# Altium schematic symbol library WE-RJ45 LAN.SchLib: 103 symbols (part 2 of 2)
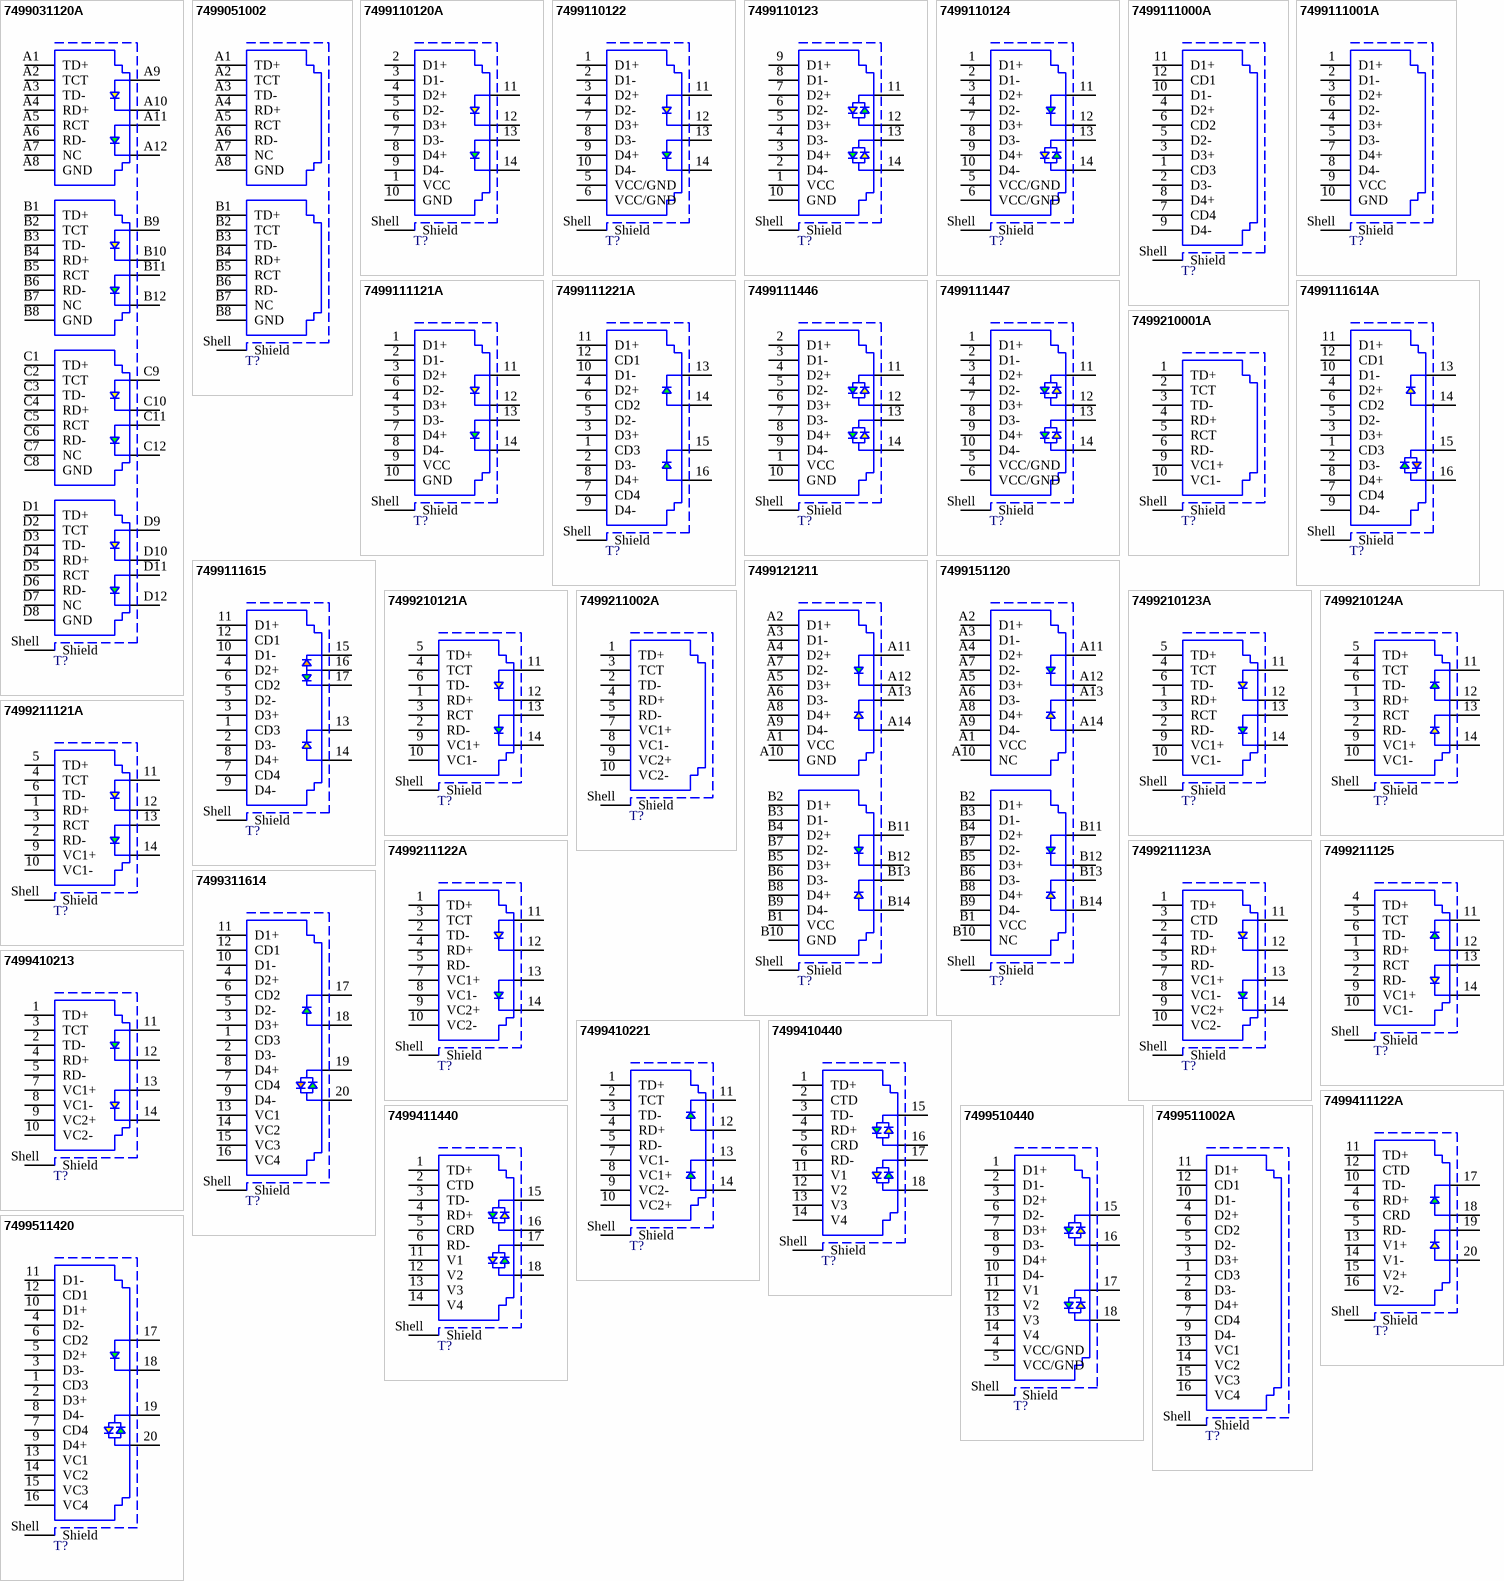
[diagram p4: symbols 7499031120A to 7499511420]

## 7499410221
designator T?  (value not drawn)
WE-RJ45 LAN Transformer, 1 Port, 10/100 Base-T, Tab Vertical; Manufacturer: Wurth Elektronik; LED: green-green; Number of Ports: 1; PoE: PoE+ (up to 600 mA); Shield Tabs: No; USB: No USB; Manufacturer Part Number: 7499410221; Category: Filtered Connectors; Match Code: WE-RJ45 LAN; ComponentLink1Description: Website Link; ComponentLink1URL: https://www.we-online.com/redexpert/article/7499410221?ad; ComponentLink2Description: Datasheet Link; ComponentLink2URL: https://www.we-online.com/redexpert/spec/7499410221?ad; Mount: Through Hole; Operating Temperature Max: 85°C; Operating Temperature Min: -40°C; Packaging: Tube; Length: 23.6mm; Width: 16.6mm; Height: 17.1mm; Data Rate: 10/100 Base-T; Tab: Vertical
footprint 7499410221
pins: 1 TD+, 2 TCT, 3 TD-, 4 RD+, 5 RD-, 7 VC1-, 8 VC1+, 9 VC2-, 10 VC2+, 11, 12, 13, 14, Shell Shield

## 7499410440
designator T?  (value not drawn)
WE-RJ45 LAN Transformer, 1 Port, 10/100 Base-T, Tab Down; Manufacturer: Wurth Elektronik; LED: yellow-green; Number of Ports: 1; PoE: PoE+ (up to 720 mA); Shield Tabs: No; USB: No USB; Manufacturer Part Number: 7499410440; Category: Filtered Connectors; Match Code: WE-RJ45 LAN; ComponentLink1Description: Website Link; ComponentLink1URL: https://www.we-online.com/redexpert/article/7499410440?ad; ComponentLink2Description: Datasheet Link; ComponentLink2URL: https://www.we-online.com/redexpert/spec/7499410440?ad; Mount: Through Hole; Operating Temperature Max: 85°C; Operating Temperature Min: -40°C; Packaging: Tray; Length: 21.35mm; Width: 15.9mm; Height: 13.65mm; Data Rate: 10/100 Base-T; Tab: Down
footprint 7499410440
pins: 1 TD+, 2 CTD, 3 TD-, 4 RD+, 5 CRD, 6 RD-, 11 V1, 12 V2, 13 V3, 14 V4, 15, 16, 17, 18, Shell Shield

## 7499411122A
designator T?  (value not drawn)
WE-RJ45 LAN Transformer, 1 Port, 100 Base-TX, Tab Up; Manufacturer: Wurth Elektronik; LED: yellow-green; Number of Ports: 1; PoE: PoE+ (up to 600 mA); Shield Tabs: Yes; USB: No USB; Manufacturer Part Number: 7499411122A; Category: Filtered Connectors; Match Code: WE-RJ45 LAN; ComponentLink1Description: Website Link; ComponentLink1URL: https://www.we-online.com/redexpert/article/7499411122A?ad; ComponentLink2Description: Datasheet Link; ComponentLink2URL: https://www.we-online.com/redexpert/spec/7499411122A?ad; Mount: Through Hole; Operating Temperature Max: 70°C; Operating Temperature Min: 0°C; Packaging: Tray; Length: 33.02mm; Width: 17mm; Height: 13.87mm; Data Rate: 100 Base-TX; Tab: Up
footprint 7499411122A
pins: 4 RD+, 5 RD-, 6 CRD, 10 TD-, 11 TD+, 12 CTD, 13 V1+, 14 V1-, 15 V2+, 16 V2-, 17, 18, 19, 20, Shell Shield

## 7499411440
designator T?  (value not drawn)
WE-RJ45 LAN Transformer, 1 Port, 10/100 Base-T, Tab Down; Manufacturer: Wurth Elektronik; LED: yellow-green; Number of Ports: 1; PoE: PoE+ (up to 720 mA); Shield Tabs: Yes; USB: No USB; Manufacturer Part Number: 7499411440; Category: Filtered Connectors; Match Code: WE-RJ45 LAN; ComponentLink1Description: Website Link; ComponentLink1URL: https://www.we-online.com/redexpert/article/7499411440?ad; ComponentLink2Description: Datasheet Link; ComponentLink2URL: https://www.we-online.com/redexpert/spec/7499411440?ad; Mount: Through Hole; Operating Temperature Max: 85°C; Operating Temperature Min: -40°C; Packaging: Tray; Length: 21.35mm; Width: 15.9mm; Height: 13.65mm; Data Rate: 10/100 Base-T; Tab: Down
footprint 7499411440
pins: 1 TD+, 2 CTD, 3 TD-, 4 RD+, 5 CRD, 6 RD-, 11 V1, 12 V2, 13 V3, 14 V4, 15, 16, 17, 18, Shell Shield

## 7499510440
designator T?  (value not drawn)
WE-RJ45 LAN Transformer, 1 Port, 1000 Base-T, Tab Down; Manufacturer: Wurth Elektronik; LED: yellow/green-yellow/green; Number of Ports: 1; PoE: PoE (up to 600 mA); Shield Tabs: No; USB: No USB; Manufacturer Part Number: 7499510440; Category: Filtered Connectors; Match Code: WE-RJ45 LAN; ComponentLink1Description: Website Link; ComponentLink1URL: https://www.we-online.com/redexpert/article/7499510440?ad; ComponentLink2Description: Datasheet Link; ComponentLink2URL: https://www.we-online.com/redexpert/spec/7499510440?ad; Mount: Through Hole; Operating Temperature Max: 85°C; Operating Temperature Min: -40°C; Packaging: Tray; Length: 21.35mm; Width: 15.9mm; Height: 13.65mm; Data Rate: 1000 Base-T; Tab: Down
footprint 7499510440
pins: 1 D1+, 2 D1-, 3 D2+, 4 VCC/GND, 5 VCC/GND, 6 D2-, 7 D3+, 8 D3-, 9 D4+, 10 D4-, 11 V1, 12 V2, 13 V3, 14 V4, 15, 16, 17, 18, Shell Shield

## 7499511002A
designator T?  (value not drawn)
WE-RJ45 LAN Transformer, 1 Port, 1000 Base-T, Tab Up; Manufacturer: Wurth Elektronik; LED: No LED; Number of Ports: 1; PoE: PoE+ (up to 600 mA); Shield Tabs: Yes; USB: No USB; Manufacturer Part Number: 7499511002A; Category: Filtered Connectors; Match Code: WE-RJ45 LAN; ComponentLink1Description: Website Link; ComponentLink1URL: https://www.we-online.com/redexpert/article/7499511002A?ad; ComponentLink2Description: Datasheet Link; ComponentLink2URL: https://www.we-online.com/redexpert/spec/7499511002A?ad; Mount: Through Hole; Operating Temperature Max: 85°C; Operating Temperature Min: -40°C; Packaging: Tray; Length: 33.02mm; Width: 17.02mm; Height: 13.87mm; Data Rate: 1000 Base-T; Tab: Up
footprint 7499511002A
pins: 1 CD3, 2 D3-, 3 D3+, 4 D2+, 5 D2-, 6 CD2, 7 CD4, 8 D4+, 9 D4-, 10 D1-, 11 D1+, 12 CD1, 13 VC1, 14 VC2, 15 VC3, 16 VC4, Shell Shield

## 7499511420
designator T?  (value not drawn)
WE-RJ45 LAN Transformer, 1 Port, 1000 Base-T, Tab Up; Manufacturer: Wurth Elektronik; LED: green/yellow-green; Number of Ports: 1; PoE: PoE+ (up to 1000 mA per center Tap); Shield Tabs: Yes; USB: No USB; Manufacturer Part Number: 7499511420; Category: Filtered Connectors; Match Code: WE-RJ45 LAN; ComponentLink1Description: Website Link; ComponentLink1URL: https://www.we-online.com/redexpert/article/7499511420?ad; ComponentLink2Description: Datasheet Link; ComponentLink2URL: https://www.we-online.com/redexpert/spec/7499511420?ad; Mount: Through Hole; Operating Temperature Max: 85°C; Operating Temperature Min: -40°C; Packaging: Tray; Length: 33.02mm; Width: 17mm; Height: 13.87mm; Data Rate: 1000 Base-T; Tab: Up
footprint 7499511420
pins: 1 CD3, 2 D3+, 3 D3-, 4 D2-, 5 D2+, 6 CD2, 7 CD4, 8 D4-, 9 D4+, 10 D1+, 11 D1-, 12 CD1, 13 VC1, 14 VC2, 15 VC3, 16 VC4, 17, 18, 19, 20, Shell Shield

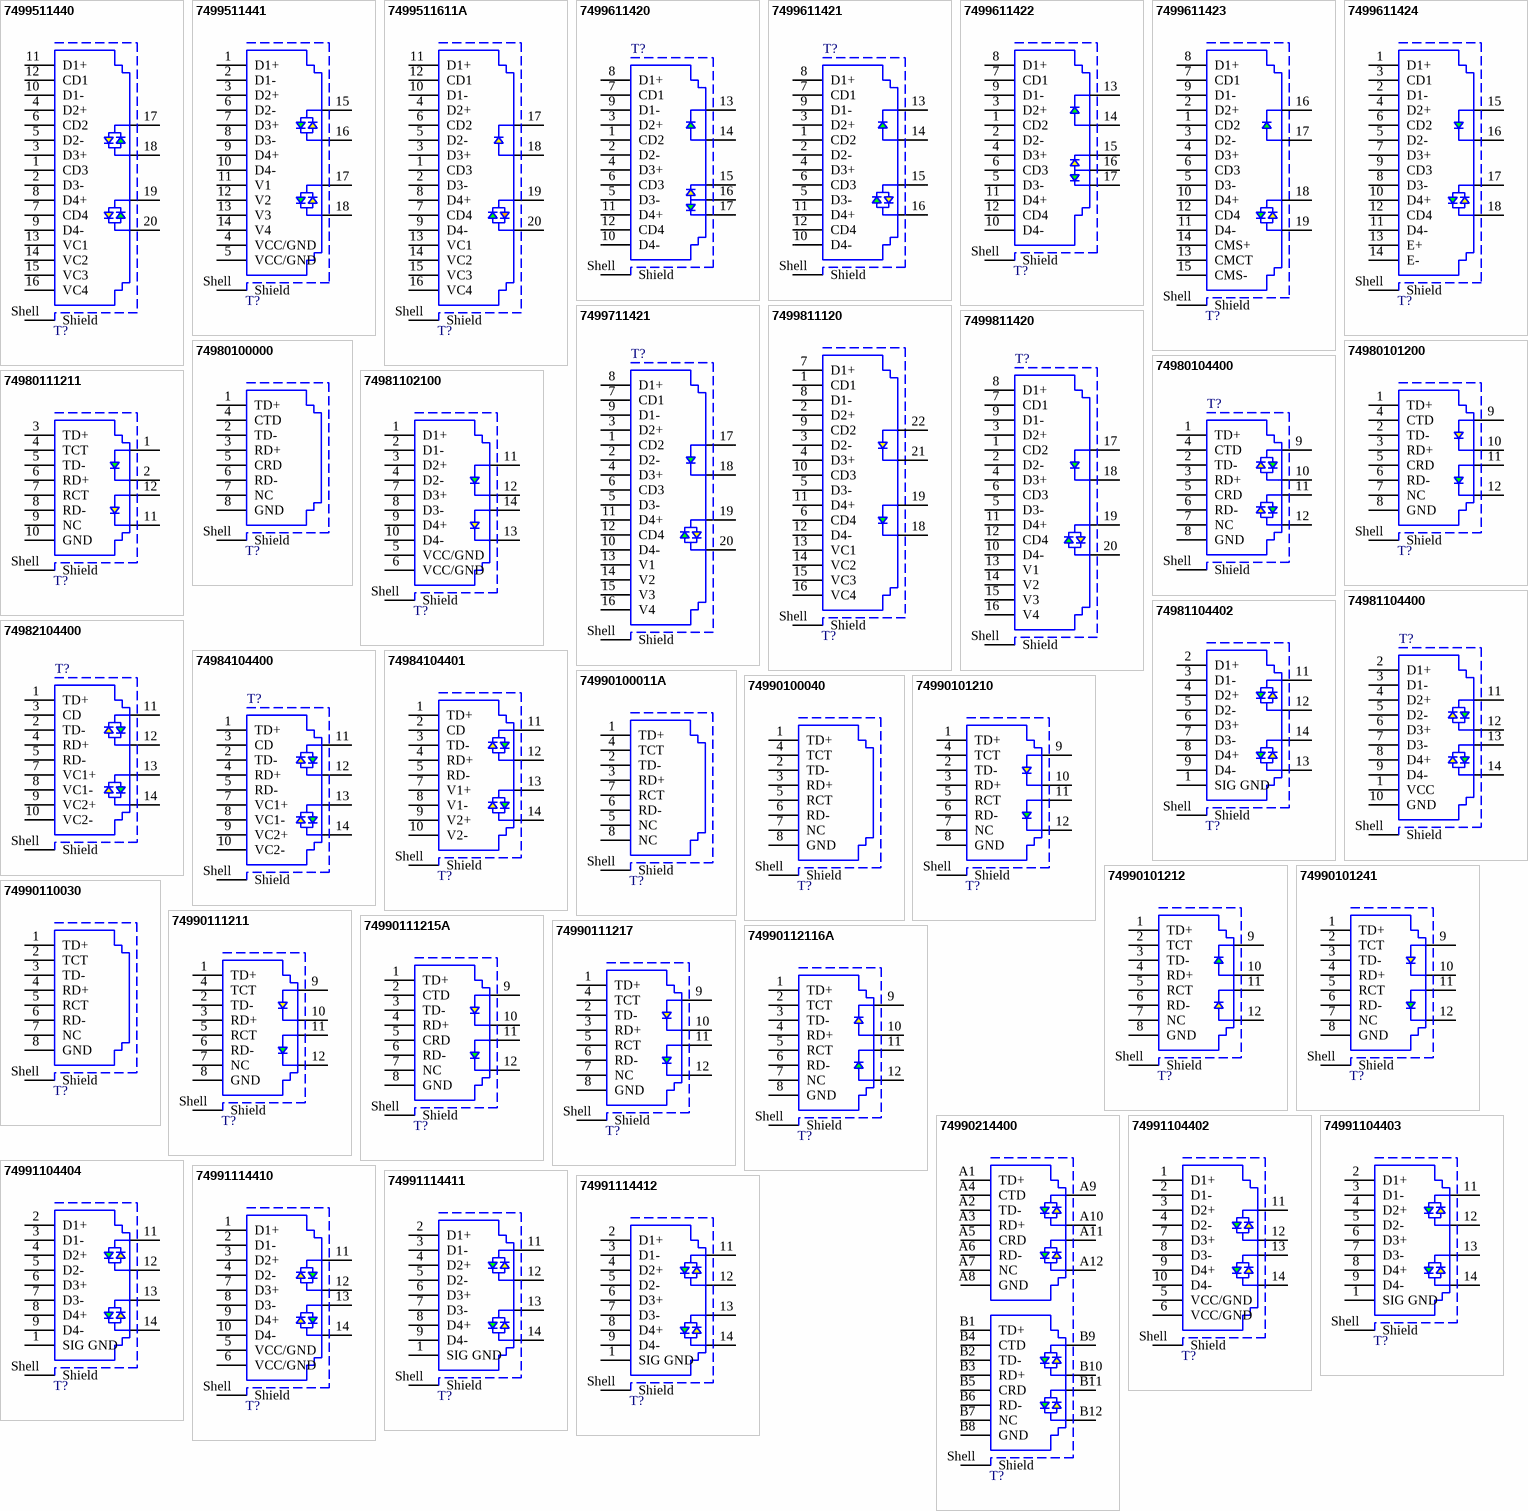
[diagram p2: symbols 7499511440 to 74991114412]

## 7499511440
designator T?  (value not drawn)
WE-RJ45 LAN Transformer, 1 Port, 1000 Base-T, Tab Up; Manufacturer: Wurth Elektronik; LED: green/yellow-green/yellow; Number of Ports: 1; PoE: PoE+ (up to 600 mA); Shield Tabs: Yes; USB: No USB; Manufacturer Part Number: 7499511440; Category: Filtered Connectors; Match Code: WE-RJ45 LAN; ComponentLink1Description: Website Link; ComponentLink1URL: https://www.we-online.com/redexpert/article/7499511440?ad; ComponentLink2Description: Datasheet Link; ComponentLink2URL: https://www.we-online.com/redexpert/spec/7499511440?ad; Mount: Through Hole; Operating Temperature Max: 85°C; Operating Temperature Min: -40°C; Packaging: Tray; Length: 33.02mm; Width: 17mm; Height: 13.87mm; Data Rate: 1000 Base-T; Tab: Up
footprint 7499511440
pins: 1 CD3, 2 D3-, 3 D3+, 4 D2+, 5 D2-, 6 CD2, 7 CD4, 8 D4+, 9 D4-, 10 D1-, 11 D1+, 12 CD1, 13 VC1, 14 VC2, 15 VC3, 16 VC4, 17, 18, 19, 20, Shell Shield

## 7499511441
designator T?  (value not drawn)
WE-RJ45 LAN Transformer, 1 Port, 1000 Base-T, Tab Down; Manufacturer: Wurth Elektronik; LED: yellow/green-yellow/green; Number of Ports: 1; PoE: PoE (up to 600 mA); Shield Tabs: Yes; USB: No USB; Manufacturer Part Number: 7499511441; Category: Filtered Connectors; Match Code: WE-RJ45 LAN; ComponentLink1Description: Website Link; ComponentLink1URL: https://www.we-online.com/redexpert/article/7499511441?ad; ComponentLink2Description: Datasheet Link; ComponentLink2URL: https://www.we-online.com/redexpert/spec/7499511441?ad; Mount: Through Hole; Operating Temperature Max: 85°C; Operating Temperature Min: -40°C; Packaging: Tray; Length: 21.35mm; Width: 15.9mm; Height: 13.65mm; Data Rate: 1000 Base-T; Tab: Down
footprint 7499511441
pins: 1 D1+, 2 D1-, 3 D2+, 4 VCC/GND, 5 VCC/GND, 6 D2-, 7 D3+, 8 D3-, 9 D4+, 10 D4-, 11 V1, 12 V2, 13 V3, 14 V4, 15, 16, 17, 18, Shell Shield

## 7499511611A
designator T?  (value not drawn)
WE-RJ45 LAN Transformer, 1 Port, 1000 Base-T, Tab Up; Manufacturer: Wurth Elektronik; LED: green/orange-yellow; Number of Ports: 1; PoE: PoE+ (up to 600 mA); Shield Tabs: Yes; USB: No USB; Manufacturer Part Number: 7499511611A; Category: Filtered Connectors; Match Code: WE-RJ45 LAN; ComponentLink1Description: Website Link; ComponentLink1URL: https://www.we-online.com/redexpert/article/7499511611A?ad; ComponentLink2Description: Datasheet Link; ComponentLink2URL: https://www.we-online.com/redexpert/spec/7499511611A?ad; Mount: Through Hole; Operating Temperature Max: 70°C; Operating Temperature Min: 0°C; Packaging: Tray; Length: 24.6mm; Width: 17.78mm; Height: 11.3mm; Data Rate: 1000 Base-T; Tab: Up
footprint 7499511611A
pins: 1 CD3, 2 D3-, 3 D3+, 4 D2+, 5 D2-, 6 CD2, 7 CD4, 8 D4+, 9 D4-, 10 D1-, 11 D1+, 12 CD1, 13 VC1, 14 VC2, 15 VC3, 16 VC4, 17, 18, 19, 20, Shell Shield

## 7499611420
designator T?  (value not drawn)
WE-RJ45 10G Transformer, 1 Port, 10G Base-T, Tab Up; Manufacturer: Wurth Elektronik; Match Code: WE-RJ45 LAN; LED: yellow/green-green; Number of Ports: 1; PoE: non-PoE; Shield Tabs: Yes; USB: No USB; Manufacturer Part Number: 7499611420; Category: Filtered Connectors; ComponentLink1Description: Website Link; ComponentLink1URL: https://www.we-online.com/redexpert/article/7499611420?ad; ComponentLink2Description: Datasheet Link; ComponentLink2URL: https://www.we-online.com/redexpert/spec/7499611420?ad; Mount: Through Hole; Operating Temperature Max: 85°C; Operating Temperature Min: -40°C; Packaging: Tube; Length: 24.6mm; Width: 17.78mm; Height: 11.3mm; Data Rate: 10G Base-T; Tab: Up
footprint 7499611420
pins: 1 CD2, 2 D2-, 3 D2+, 4 D3+, 5 D3-, 6 CD3, 7 CD1, 8 D1+, 9 D1-, 10 D4-, 11 D4+, 12 CD4, 13, 14, 15, 16, 17, Shell Shield

## 7499611421
designator T?  (value not drawn)
WE-RJ45 10G Transformer, 1 Port, 10G Base-T, Tab Up; Manufacturer: Wurth Elektronik; Match Code: WE-RJ45 LAN; LED: yellow/green-green; Number of Ports: 1; PoE: non-PoE; Shield Tabs: Yes; USB: No USB; Manufacturer Part Number: 7499611421; Category: Filtered Connectors; ComponentLink1Description: Website Link; ComponentLink1URL: https://www.we-online.com/redexpert/article/7499611421?ad; ComponentLink2Description: Datasheet Link; ComponentLink2URL: https://www.we-online.com/redexpert/spec/7499611421?ad; Mount: Through Hole; Operating Temperature Max: 70°C; Operating Temperature Min: 0°C; Packaging: Tube; Length: 33.02mm; Width: 16.87mm; Height: 13.87mm; Data Rate: 10G Base-T; Tab: Up
footprint 7499611421
pins: 1 CD2, 2 D2-, 3 D2+, 4 D3+, 5 D3-, 6 CD3, 7 CD1, 8 D1+, 9 D1-, 10 D4-, 11 D4+, 12 CD4, 13, 14, 15, 16, Shell Shield

## 7499611422
designator T?  (value not drawn)
WE-RJ45 10G Transformer, 1 Port, 10G Base-T, Tab Down; Manufacturer: Wurth Elektronik; Match Code: WE-RJ45 LAN; LED: yellow/green-green; Number of Ports: 1; PoE: non-PoE; Shield Tabs: Yes; USB: No USB; Manufacturer Part Number: 7499611422; Category: Filtered Connectors; ComponentLink1Description: Website Link; ComponentLink1URL: https://www.we-online.com/redexpert/article/7499611422?ad; ComponentLink2Description: Datasheet Link; ComponentLink2URL: https://www.we-online.com/redexpert/spec/7499611422?ad; Mount: Through Hole; Operating Temperature Max: 85°C; Operating Temperature Min: -40°C; Packaging: Tray; Length: 23.88mm; Width: 17.53mm; Height: 11.3mm; Data Rate: 10G Base-T; Tab: Down
footprint 7499611422
pins: 1 CD2, 2 D2-, 3 D2+, 4 D3+, 5 D3-, 6 CD3, 7 CD1, 8 D1+, 9 D1-, 10 D4-, 11 D4+, 12 CD4, 13, 14, 15, 16, 17, Shell Shield

## 7499611423
designator T?  (value not drawn)
WE-RJ45 10G Transformer, 1 Port, 10G Base-T, Tab Down; Manufacturer: Wurth Elektronik; Match Code: WE-RJ45 LAN; LED: yellow/green-green; Number of Ports: 1; PoE: non-PoE; Shield Tabs: Yes; USB: No USB; Manufacturer Part Number: 7499611423; Category: Filtered Connectors; ComponentLink1Description: Website Link; ComponentLink1URL: https://www.we-online.com/redexpert/article/7499611423?ad; ComponentLink2Description: Datasheet Link; ComponentLink2URL: https://www.we-online.com/redexpert/spec/7499611423?ad; Mount: Through Hole; Operating Temperature Max: 85°C; Operating Temperature Min: -40°C; Packaging: Tray; Length: 28.57mm; Width: 17.53mm; Height: 11.92mm; Data Rate: 10G Base-T; Tab: Down
footprint 7499611423
pins: 1 CD2, 2 D2+, 3 D2-, 4 D3+, 5 D3-, 6 CD3, 7 CD1, 8 D1+, 9 D1-, 10 D4+, 11 D4-, 12 CD4, 13 CMCT, 14 CMS+, 15 CMS-, 16, 17, 18, 19, Shell Shield

## 7499611424
designator T?  (value not drawn)
WE-RJ45 10G Transformer, 1 Port, 10G Base-T, Tab Up; Manufacturer: Wurth Elektronik; Match Code: WE-RJ45 LAN; LED: yellow/green-green; Number of Ports: 1; PoE: non-PoE; Shield Tabs: Yes; USB: No USB; Manufacturer Part Number: 7499611424; Category: Filtered Connectors; ComponentLink1Description: Website Link; ComponentLink1URL: https://www.we-online.com/redexpert/article/7499611424?ad; ComponentLink2Description: Datasheet Link; ComponentLink2URL: https://www.we-online.com/redexpert/spec/7499611424?ad; Mount: Through Hole; Operating Temperature Max: 85°C; Operating Temperature Min: -40°C; Packaging: Tray; Length: 26.06mm; Width: 17.58mm; Height: 11.3mm; Data Rate: 10G Base-T; Tab: Up
footprint 7499611424
pins: 1 D1+, 2 D1-, 3 CD1, 4 D2+, 5 D2-, 6 CD2, 7 D3+, 8 D3-, 9 CD3, 10 D4+, 11 D4-, 12 CD4, 13 E+, 14 E-, 15, 16, 17, 18, Shell Shield

## 7499711421
designator T?  (value not drawn)
WE-RJ45 10G Transformer, 1 Port, 10G Base-T, Tab Up; Manufacturer: Wurth Elektronik; Match Code: WE-RJ45 LAN; LED: yellow/green-green; Number of Ports: 1; PoE: PoE (up to 350 mA); Shield Tabs: Yes; USB: No USB; Manufacturer Part Number: 7499711421; Category: Filtered Connectors; ComponentLink1Description: Website Link; ComponentLink1URL: https://www.we-online.com/redexpert/article/7499711421?ad; ComponentLink2Description: Datasheet Link; ComponentLink2URL: https://www.we-online.com/redexpert/spec/7499711421?ad; Mount: Through Hole; Operating Temperature Max: 85°C; Operating Temperature Min: -40°C; Packaging: Tube; Length: 33.02mm; Width: 17mm; Height: 13.87mm; Data Rate: 10G Base-T; Tab: Up
footprint 7499711421
pins: 1 CD2, 2 D2-, 3 D2+, 4 D3+, 5 D3-, 6 CD3, 7 CD1, 8 D1+, 9 D1-, 10 D4-, 11 D4+, 12 CD4, 13 V1, 14 V2, 15 V3, 16 V4, 17, 18, 19, 20, Shell Shield

## 7499811120
designator T?  (value not drawn)
WE-RJ45 10G Transformer, 1 Port, 10G Base-T, Tab Down; Manufacturer: Wurth Elektronik; Match Code: WE-RJ45 LAN; LED: yellow-green; Number of Ports: 1; PoE: PoE+ (up to 1000 mA); Shield Tabs: Yes; USB: No USB; Manufacturer Part Number: 7499811120; Category: Filtered Connectors; ComponentLink1Description: Website Link; ComponentLink1URL: https://www.we-online.com/redexpert/article/7499811120?ad; ComponentLink2Description: Datasheet Link; ComponentLink2URL: https://www.we-online.com/redexpert/spec/7499811120?ad; Mount: Through Hole; Operating Temperature Max: 85°C; Operating Temperature Min: -40°C; Packaging: Tray; Length: 28.57mm; Width: 17.53mm; Height: 11.92mm; Data Rate: 10G Base-T; Tab: Down
footprint 7499811120
pins: 1 CD1, 2 D2+, 3 D2-, 4 D3+, 5 D3-, 6 CD4, 7 D1+, 8 D1-, 9 CD2, 10 CD3, 11 D4+, 12 D4-, 13 VC1, 14 VC2, 15 VC3, 16 VC4, 18, 19, 21, 22, Shell Shield

## 7499811420
designator T?  (value not drawn)
WE-RJ45 10G Transformer, 1 Port, 10G Base-T, Tab Up; Manufacturer: Wurth Elektronik; Match Code: WE-RJ45 LAN; LED: yellow/green-green; Number of Ports: 1; PoE: PoE+ (up to 600 mA); Shield Tabs: Yes; USB: No USB; Manufacturer Part Number: 7499811420; Category: Filtered Connectors; ComponentLink1Description: Website Link; ComponentLink1URL: https://www.we-online.com/redexpert/article/7499811420?ad; ComponentLink2Description: Datasheet Link; ComponentLink2URL: https://www.we-online.com/redexpert/spec/7499811420?ad; Mount: Through Hole; Operating Temperature Max: 85°C; Operating Temperature Min: -40°C; Packaging: Tube; Length: 33.02mm; Width: 17mm; Height: 13.87mm; Data Rate: 10G Base-T; Tab: Up
footprint 7499811420
pins: 1 CD2, 2 D2-, 3 D2+, 4 D3+, 5 D3-, 6 CD3, 7 CD1, 8 D1+, 9 D1-, 10 D4-, 11 D4+, 12 CD4, 13 V1, 14 V2, 15 V3, 16 V4, 17, 18, 19, 20, Shell Shield

## 74980100000
designator T?  (value not drawn)
WE-RJ45 LAN Through Hole Reflow, 1 Port, 10/100 Base-T, Tab Vertical; Manufacturer: Wurth Elektronik; LED: No LED; Number of Ports: 1; PoE: non-PoE; Shield Tabs: No; USB: No USB; Manufacturer Part Number: 74980100000; Category: Filtered Connectors; Match Code: WE-RJ45 LAN; ComponentLink1Description: Website Link; ComponentLink1URL: https://www.we-online.com/redexpert/article/74980100000?ad; ComponentLink2Description: Datasheet Link; ComponentLink2URL: https://www.we-online.com/redexpert/spec/74980100000?ad; Mount: Through Hole Reflow; Operating Temperature Max: 85°C; Operating Temperature Min: -40°C; Packaging: Tape and Reel; Length: 16.7mm; Width: 16.05mm; Height: 16.9mm; Data Rate: 10/100 Base-T; Tab: Vertical
footprint 74980100000
pins: 1 TD+, 2 TD-, 3 RD+, 4 CTD, 5 CRD, 6 RD-, 7 NC, 8 GND, Shell Shield

## 74980101200
designator T?  (value not drawn)
WE-RJ45 LAN Through Hole Reflow, 1 Port, 10/100 Base-T, Tab Vertical; Manufacturer: Wurth Elektronik; LED: yellow-green; Number of Ports: 1; PoE: non-PoE; Shield Tabs: No; USB: No USB; Manufacturer Part Number: 74980101200; Category: Filtered Connectors; Match Code: WE-RJ45 LAN; ComponentLink1Description: Website Link; ComponentLink1URL: https://www.we-online.com/redexpert/article/74980101200?ad; ComponentLink2Description: Datasheet Link; ComponentLink2URL: https://www.we-online.com/redexpert/spec/74980101200?ad; Mount: Through Hole Reflow; Operating Temperature Max: 85°C; Operating Temperature Min: -40°C; Packaging: Tape and Reel; Length: 16.7mm; Width: 16.05mm; Height: 16.9mm; Data Rate: 10/100 Base-T; Tab: Vertical
footprint 74980101200
pins: 1 TD+, 2 TD-, 3 RD+, 4 CTD, 5 CRD, 6 RD-, 7 NC, 8 GND, 9, 10, 11, 12, Shell Shield

## 74980104400
designator T?  (value not drawn)
WE-RJ45 LAN Through Hole Reflow, 1 Port, 10/100 Base-T, Tab Up; Manufacturer: Wurth Elektronik; LED: green/yellow-green/yellow; Number of Ports: 1; PoE: non-PoE; Shield Tabs: No; USB: No USB; Manufacturer Part Number: 74980104400; Category: Filtered Connectors; Match Code: WE-RJ45 LAN; ComponentLink1Description: Website Link; ComponentLink1URL: https://www.we-online.com/redexpert/article/74980104400?ad; ComponentLink2Description: Datasheet Link; ComponentLink2URL: https://www.we-online.com/redexpert/spec/74980104400?ad; Mount: Through Hole Reflow; Operating Temperature Max: 85°C; Operating Temperature Min: -40°C; Packaging: Tape and Reel; Length: 21.5mm; Width: 16mm; Height: 13.6mm; Data Rate: 10/100 Base-T; Tab: Up
footprint 74980104400
pins: 1 TD+, 2 TD-, 3 RD+, 4 CTD, 5 CRD, 6 RD-, 7 NC, 8 GND, 9, 10, 11, 12, Shell Shield

## 74980111211
designator T?  (value not drawn)
WE-RJ45 LAN Transformer, 1 Port, 10/100 Base-T, Tab Up; Manufacturer: Wurth Elektronik; LED: yellow-green; Number of Ports: 1; PoE: non-PoE; Shield Tabs: Yes; USB: No USB; Manufacturer Part Number: 74980111211; Category: Filtered Connectors; Match Code: WE-RJ45 LAN; ComponentLink1Description: Website Link; ComponentLink1URL: https://www.we-online.com/redexpert/article/74980111211?ad; ComponentLink2Description: Datasheet Link; ComponentLink2URL: https://www.we-online.com/redexpert/spec/74980111211?ad; Mount: Surface Mount; Operating Temperature Max: 85°C; Operating Temperature Min: -40°C; Packaging: Tape and Reel; Length: 25.4mm; Width: 16.1mm; Height: 13.61mm; Data Rate: 10/100 Base-T; Tab: Up
footprint 74980111211
pins: 1, 2, 3 TD+, 4 TCT, 5 TD-, 6 RD+, 7 RCT, 8 RD-, 9 NC, 10 GND, 11, 12, Shell Shield

## 74981102100
designator T?  (value not drawn)
WE-RJ45 LAN Through Hole Reflow, 1 Port, 10/100/1000 Base-T, Tab Vertical; Manufacturer: Wurth Elektronik; LED: green-yellow; Number of Ports: 1; PoE: non-PoE; Shield Tabs: No; USB: No USB; Manufacturer Part Number: 74981102100; Category: Filtered Connectors; Match Code: WE-RJ45 LAN; ComponentLink1Description: Website Link; ComponentLink1URL: https://www.we-online.com/redexpert/article/74981102100?ad; ComponentLink2Description: Datasheet Link; ComponentLink2URL: https://www.we-online.com/redexpert/spec/74981102100?ad; Mount: Through Hole Reflow; Operating Temperature Max: 85°C; Operating Temperature Min: -40°C; Packaging: Tape and Reel; Length: 16.7mm; Width: 16.05mm; Height: 16.9mm; Data Rate: 10/100/1000 Base-T; Tab: Vertical
footprint 74981102100
pins: 1 D1+, 2 D1-, 3 D2+, 4 D2-, 5 VCC/GND, 6 VCC/GND, 7 D3+, 8 D3-, 9 D4+, 10 D4-, 11, 12, 13, 14, Shell Shield

## 74981104400
designator T?  (value not drawn)
WE-RJ45 LAN Through Hole Reflow, 1 Port, 10/100/1000 Base-T, Tab Up; Manufacturer: Wurth Elektronik; LED: green/yellow-green/yellow; Number of Ports: 1; PoE: non-PoE; Shield Tabs: No; USB: No USB; Manufacturer Part Number: 74981104400; Category: Filtered Connectors; Match Code: WE-RJ45 LAN; ComponentLink1Description: Website Link; ComponentLink1URL: https://www.we-online.com/redexpert/article/74981104400?ad; ComponentLink2Description: Datasheet Link; ComponentLink2URL: https://www.we-online.com/redexpert/spec/74981104400?ad; Mount: Through Hole Reflow; Operating Temperature Max: 85°C; Operating Temperature Min: -40°C; Packaging: Tape and Reel; Length: 21.5mm; Width: 16mm; Height: 13.6mm; Data Rate: 10/100/1000 Base-T; Tab: Up
footprint 74981104400
pins: 1 VCC, 2 D1+, 3 D1-, 4 D2+, 5 D2-, 6 D3+, 7 D3-, 8 D4+, 9 D4-, 10 GND, 11, 12, 13, 14, Shell Shield

## 74981104402
designator T?  (value not drawn)
WE-RJ45 LAN Transformer, 1 Port, 1000 Base-T, Tab Vertical; Manufacturer: Wurth Elektronik; LED: yellow/green-yellow/green; Number of Ports: 1; PoE: non-PoE; Shield Tabs: No; USB: No USB; Manufacturer Part Number: 74981104402; Category: Filtered Connectors; Match Code: WE-RJ45 LAN; ComponentLink1Description: Website Link; ComponentLink1URL: https://www.we-online.com/redexpert/article/74981104402?ad; ComponentLink2Description: Datasheet Link; ComponentLink2URL: https://www.we-online.com/redexpert/spec/74981104402?ad; Mount: Through Hole; Operating Temperature Max: 85°C; Operating Temperature Min: -40°C; Packaging: Tape and Reel; Length: 16.7mm; Width: 16.05mm; Height: 16.9mm; Data Rate: 1000 Base-T; Tab: Vertical
footprint 74981104402
pins: 1 SIG GND, 2 D1+, 3 D1-, 4 D2+, 5 D2-, 6 D3+, 7 D3-, 8 D4+, 9 D4-, 11, 12, 13, 14, Shell Shield

## 74982104400
designator T?  (value not drawn)
WE-RJ45 LAN Through Hole Reflow, 1 Port, 10/100 Base-T, Tab Up; Manufacturer: Wurth Elektronik; LED: green/yellow-green/yellow; Number of Ports: 1; PoE: PoE (up to 350 mA); Shield Tabs: No; USB: No USB; Manufacturer Part Number: 74982104400; Category: Filtered Connectors; Match Code: WE-RJ45 LAN; ComponentLink1Description: Website Link; ComponentLink1URL: https://www.we-online.com/redexpert/article/74982104400?ad; ComponentLink2Description: Datasheet Link; ComponentLink2URL: https://www.we-online.com/redexpert/spec/74982104400?ad; Mount: Through Hole Reflow; Operating Temperature Max: 85°C; Operating Temperature Min: -40°C; Packaging: Tape and Reel; Length: 21.5mm; Width: 16mm; Height: 13.6mm; Data Rate: 10/100 Base-T; Tab: Up
footprint 74982104400
pins: 1 TD+, 2 TD-, 3 CD, 4 RD+, 5 RD-, 7 VC1+, 8 VC1-, 9 VC2+, 10 VC2-, 11, 12, 13, 14, Shell Shield

## 74984104400
designator T?  (value not drawn)
WE-RJ45 LAN Through Hole Reflow, 1 Port, 10/100 Base-T, Tab Up; Manufacturer: Wurth Elektronik; LED: green/yellow-green/yellow; Number of Ports: 1; PoE: PoE+ (up to 600 mA); Shield Tabs: No; USB: No USB; Manufacturer Part Number: 74984104400; Category: Filtered Connectors; Match Code: WE-RJ45 LAN; ComponentLink1Description: Website Link; ComponentLink1URL: https://www.we-online.com/redexpert/article/74984104400?ad; ComponentLink2Description: Datasheet Link; ComponentLink2URL: https://www.we-online.com/redexpert/spec/74984104400?ad; Mount: Through Hole Reflow; Operating Temperature Max: 85°C; Operating Temperature Min: -40°C; Packaging: Tape and Reel; Length: 21.5mm; Width: 16mm; Height: 13.6mm; Data Rate: 10/100 Base-T; Tab: Up
footprint 74984104400
pins: 1 TD+, 2 TD-, 3 CD, 4 RD+, 5 RD-, 7 VC1+, 8 VC1-, 9 VC2+, 10 VC2-, 11, 12, 13, 14, Shell Shield

## 74984104401
designator T?  (value not drawn)
WE-RJ45 LAN Through Hole Reflow, 1 Port, 10/100 Base-T, Tab Vertical; Manufacturer: Wurth Elektronik; LED: yellow/green-yellow/green; Number of Ports: 1; PoE: PoE+ (up to 600 mA); Shield Tabs: No; USB: No USB; Manufacturer Part Number: 74984104401; Category: Filtered Connectors; Match Code: WE-RJ45 LAN; ComponentLink1Description: Website Link; ComponentLink1URL: https://www.we-online.com/redexpert/article/74984104401?ad; ComponentLink2Description: Datasheet Link; ComponentLink2URL: https://www.we-online.com/redexpert/spec/74984104401?ad; Mount: Through Hole Reflow; Operating Temperature Max: 85°C; Operating Temperature Min: -40°C; Packaging: Tape and Reel; Length: 16.7mm; Width: 16.05mm; Height: 16.9mm; Data Rate: 10/100 Base-T; Tab: Vertical
footprint 74984104401
pins: 1 TD+, 2 CD, 3 TD-, 4 RD+, 5 RD-, 7 V1+, 8 V1-, 9 V2+ (power), 10 V2- (power), 11, 12, 13, 14, Shell Shield

## 74990100011A
designator T?  (value not drawn)
WE-RJ45 LAN Transformer, 1 Port, 10/100 Base-T, Tab Up; Manufacturer: Wurth Elektronik; LED: No LED; Number of Ports: 1; PoE: non-PoE; Shield Tabs: No; USB: No USB; Manufacturer Part Number: 74990100011A; Category: Filtered Connectors; Match Code: WE-RJ45 LAN; ComponentLink1Description: Website Link; ComponentLink1URL: https://www.we-online.com/redexpert/article/74990100011A?ad; ComponentLink2Description: Datasheet Link; ComponentLink2URL: https://www.we-online.com/redexpert/spec/74990100011A?ad; Mount: Through Hole; Operating Temperature Max: 85°C; Operating Temperature Min: -40°C; Packaging: Tube; Length: 21.84mm; Width: 16.13mm; Height: 13.74mm; Data Rate: 10/100 Base-T; Tab: Up
footprint 74990100011A
pins: 1 TD+, 2 TD-, 3 RD+, 4 TCT, 5 NC, 6 RD-, 7 RCT, 8 NC, Shell Shield

## 74990100040
designator T?  (value not drawn)
WE-RJ45 LAN Transformer, 1 Port, 10/100 Base-T, Tab Down; Manufacturer: Wurth Elektronik; LED: No LED; Number of Ports: 1; PoE: non-PoE; Shield Tabs: No; USB: No USB; Manufacturer Part Number: 74990100040; Category: Filtered Connectors; Match Code: WE-RJ45 LAN; ComponentLink1Description: Website Link; ComponentLink1URL: https://www.we-online.com/redexpert/article/74990100040?ad; ComponentLink2Description: Datasheet Link; ComponentLink2URL: https://www.we-online.com/redexpert/spec/74990100040?ad; Mount: Through Hole; Operating Temperature Max: 85°C; Operating Temperature Min: -40°C; Packaging: Tube; Length: 21.59mm; Width: 16.04mm; Height: 13.74mm; Data Rate: 10/100 Base-T; Tab: Down
footprint 74990100040
pins: 1 TD+, 2 TD-, 3 RD+, 4 TCT, 5 RCT, 6 RD-, 7 NC, 8 GND, Shell Shield

## 74990101210
designator T?  (value not drawn)
WE-RJ45 LAN Transformer, 1 Port, 10/100 Base-T, Tab Vertical; Manufacturer: Wurth Elektronik; LED: green-yellow; Number of Ports: 1; PoE: non-PoE; Shield Tabs: No; USB: No USB; Manufacturer Part Number: 74990101210; Category: Filtered Connectors; Match Code: WE-RJ45 LAN; ComponentLink1Description: Website Link; ComponentLink1URL: https://www.we-online.com/redexpert/article/74990101210?ad; ComponentLink2Description: Datasheet Link; ComponentLink2URL: https://www.we-online.com/redexpert/spec/74990101210?ad; Mount: Through Hole; Operating Temperature Max: 85°C; Operating Temperature Min: -40°C; Packaging: Tube; Length: 17.1mm; Width: 16.6mm; Height: 17.5mm; Data Rate: 10/100 Base-T; Tab: Vertical
footprint 74990101210
pins: 1 TD+, 2 TD-, 3 RD+, 4 TCT, 5 RCT, 6 RD-, 7 NC, 8 GND, 9, 10, 11, 12, Shell Shield

## 74990101212
designator T?  (value not drawn)
WE-RJ45 LAN Transformer, 1 Port, 10/100 Base-T, Tab Up; Manufacturer: Wurth Elektronik; LED: yellow-green; Number of Ports: 1; PoE: non-PoE; Shield Tabs: No; USB: No USB; Manufacturer Part Number: 74990101212; Category: Filtered Connectors; Match Code: WE-RJ45 LAN; ComponentLink1Description: Website Link; ComponentLink1URL: https://www.we-online.com/redexpert/article/74990101212?ad; ComponentLink2Description: Datasheet Link; ComponentLink2URL: https://www.we-online.com/redexpert/spec/74990101212?ad; Mount: Through Hole; Operating Temperature Max: 85°C; Operating Temperature Min: -40°C; Packaging: Tube; Length: 25.3mm; Width: 16.2mm; Height: 13.5mm; Data Rate: 10/100 Base-T; Tab: Up
footprint 74990101212
pins: 1 TD+, 2 TCT, 3 TD-, 4 RD+, 5 RCT, 6 RD-, 7 NC, 8 GND, 9, 10, 11, 12, Shell Shield

## 74990101241
designator T?  (value not drawn)
WE-RJ45 LAN Transformer, 1 Port, 10/100 Base-T, Tab Vertical; Manufacturer: Wurth Elektronik; LED: green-yellow; Number of Ports: 1; PoE: non-PoE; Shield Tabs: No; USB: No USB; Manufacturer Part Number: 74990101241; Category: Filtered Connectors; Match Code: WE-RJ45 LAN; ComponentLink1Description: Website Link; ComponentLink1URL: https://www.we-online.com/redexpert/article/74990101241?ad; ComponentLink2Description: Datasheet Link; ComponentLink2URL: https://www.we-online.com/redexpert/spec/74990101241?ad; Mount: Through Hole; Operating Temperature Max: 85°C; Operating Temperature Min: -40°C; Packaging: Tube; Length: 17.5mm; Width: 16.8mm; Height: 17.5mm; Data Rate: 10/100 Base-T; Tab: Vertical
footprint 74990101241
pins: 1 TD+, 2 TCT, 3 TD-, 4 RD+, 5 RCT, 6 RD-, 7 NC, 8 GND, 9, 10, 11, 12, Shell Shield

## 74990110030
designator T?  (value not drawn)
WE-RJ45 LAN Transformer, 1 Port, 10/100 Base-T, Tab Up; Manufacturer: Wurth Elektronik; LED: No LED; Number of Ports: 1; PoE: non-PoE; Shield Tabs: Yes; USB: No USB; Manufacturer Part Number: 74990110030; Category: Filtered Connectors; Match Code: WE-RJ45 LAN; ComponentLink1Description: Website Link; ComponentLink1URL: https://www.we-online.com/redexpert/article/74990110030?ad; ComponentLink2Description: Datasheet Link; ComponentLink2URL: https://www.we-online.com/redexpert/spec/74990110030?ad; Mount: Through Hole; Operating Temperature Max: 70°C; Operating Temperature Min: 0°C; Packaging: Tube; Length: 25.35mm; Width: 16.25mm; Height: 13.5mm; Data Rate: 10/100 Base-T; Tab: Up
footprint 74990110030
pins: 1 TD+, 2 TCT, 3 TD-, 4 RD+, 5 RCT, 6 RD-, 7 NC, 8 GND, Shell Shield

## 74990111211
designator T?  (value not drawn)
WE-RJ45 LAN Transformer, 1 Port, 10/100 Base-T, Tab Down; Manufacturer: Wurth Elektronik; LED: yellow-green; Number of Ports: 1; PoE: non-PoE; Shield Tabs: Yes; USB: No USB; Manufacturer Part Number: 74990111211; Category: Filtered Connectors; Match Code: WE-RJ45 LAN; ComponentLink1Description: Website Link; ComponentLink1URL: https://www.we-online.com/redexpert/article/74990111211?ad; ComponentLink2Description: Datasheet Link; ComponentLink2URL: https://www.we-online.com/redexpert/spec/74990111211?ad; Mount: Through Hole; Operating Temperature Max: 85°C; Operating Temperature Min: -40°C; Packaging: Tube; Length: 21.84mm; Width: 15.88mm; Height: 13.95mm; Data Rate: 10/100 Base-T; Tab: Down
footprint 74990111211
pins: 1 TD+, 2 TD-, 3 RD+, 4 TCT, 5 RCT, 6 RD-, 7 NC, 8 GND, 9, 10, 11, 12, Shell Shield

## 74990111215A
designator T?  (value not drawn)
WE-RJ45 LAN Transformer, 1 Port, 10/100 Base-T, Tab Down; Manufacturer: Wurth Elektronik; LED: yellow-green; Number of Ports: 1; PoE: non-PoE; Shield Tabs: Yes; USB: No USB; Manufacturer Part Number: 74990111215A; Category: Filtered Connectors; Match Code: WE-RJ45 LAN; ComponentLink1Description: Website Link; ComponentLink1URL: https://www.we-online.com/redexpert/article/74990111215A?ad; ComponentLink2Description: Datasheet Link; ComponentLink2URL: https://www.we-online.com/redexpert/spec/74990111215A?ad; Mount: Through Hole; Operating Temperature Max: 70°C; Operating Temperature Min: 0°C; Packaging: Tube; Length: 21.84mm; Width: 15.88mm; Height: 13.74mm; Data Rate: 10/100 Base-T; Tab: Down
footprint 74990111215A
pins: 1 TD+, 2 CTD, 3 TD-, 4 RD+, 5 CRD, 6 RD-, 7 NC, 8 GND, 9, 10, 11, 12, Shell Shield

## 74990111217
designator T?  (value not drawn)
WE-RJ45 LAN Transformer, 1 Port, 10/100 Base-T, Tab Up; Manufacturer: Wurth Elektronik; LED: yellow-green; Number of Ports: 1; PoE: non-PoE; Shield Tabs: Yes; USB: No USB; Manufacturer Part Number: 74990111217; Category: Filtered Connectors; Match Code: WE-RJ45 LAN; ComponentLink1Description: Website Link; ComponentLink1URL: https://www.we-online.com/redexpert/article/74990111217?ad; ComponentLink2Description: Datasheet Link; ComponentLink2URL: https://www.we-online.com/redexpert/spec/74990111217?ad; Mount: Through Hole; Operating Temperature Max: 85°C; Operating Temperature Min: -40°C; Packaging: Tube; Length: 21.3mm; Width: 16mm; Height: 13.55mm; Data Rate: 10/100 Base-T; Tab: Up
footprint 74990111217
pins: 1 TD+, 2 TD-, 3 RD+, 4 TCT, 5 RCT, 6 RD-, 7 NC, 8 GND, 9, 10, 11, 12, Shell Shield

## 74990112116A
designator T?  (value not drawn)
WE-RJ45 LAN Transformer, 1 Port, 10/100 Base-T, Tab Up; Manufacturer: Wurth Elektronik; LED: green-yellow; Number of Ports: 1; PoE: non-PoE; Shield Tabs: Yes; USB: No USB; Manufacturer Part Number: 74990112116A; Category: Filtered Connectors; Match Code: WE-RJ45 LAN; ComponentLink1Description: Website Link; ComponentLink1URL: https://www.we-online.com/redexpert/article/74990112116A?ad; ComponentLink2Description: Datasheet Link; ComponentLink2URL: https://www.we-online.com/redexpert/spec/74990112116A?ad; Mount: Through Hole; Operating Temperature Max: 85°C; Operating Temperature Min: -40°C; Packaging: Tube; Length: 25.3mm; Width: 16.2mm; Height: 13.5mm; Data Rate: 10/100 Base-T; Tab: Up
footprint 74990112116A
pins: 1 TD+, 2 TCT, 3 TD-, 4 RD+, 5 RCT, 6 RD-, 7 NC, 8 GND, 9, 10, 11, 12, Shell Shield

## 74990214400
designator T?  (value not drawn)
WE-RJ45 LAN Transformer, 1x2 Port, 10/100 Base-T, Tab Up; Manufacturer: Wurth Elektronik; LED: yellow-green; PoE: non-PoE; Shield Tabs: Yes; USB: No USB; Manufacturer Part Number: 74990214400; Category: Filtered Connectors; Match Code: WE-RJ45 LAN; ComponentLink1Description: Website Link; ComponentLink1URL: https://www.we-online.com/redexpert/article/74990214400?ad; ComponentLink2Description: Datasheet Link; ComponentLink2URL: https://www.we-online.com/redexpert/spec/74990214400?ad; Mount: Through Hole; Operating Temperature Max: 85°C; Operating Temperature Min: -40°C; Packaging: Tray; Length: 31mm; Width: 21.5mm; Height: 13.4mm; Data Rate: 10/100 Base-T; Number of Ports: 1x2; Tab: Up
footprint 74990214400
pins: A1 TD+, A2 TD-, A3 RD+, A4 CTD, A5 CRD, A6 RD-, A7 NC, A8 GND, A9, A10, A11, A12, B1 TD+, B2 TD-, B3 RD+, B4 CTD, B5 CRD, B6 RD-, B7 NC, B8 GND, B9, B10, B11, B12, Shell Shield

## 74991104402
designator T?  (value not drawn)
WE-RJ45 LAN Transformer, 1 Port, 1000 Base-T, Tab Vertical; Manufacturer: Wurth Elektronik; LED: yellow/green-yellow/green; Number of Ports: 1; PoE: non-PoE; Shield Tabs: No; USB: No USB; Manufacturer Part Number: 74991104402; Category: Filtered Connectors; Match Code: WE-RJ45 LAN; ComponentLink1Description: Website Link; ComponentLink1URL: https://www.we-online.com/redexpert/article/74991104402?ad; ComponentLink2Description: Datasheet Link; ComponentLink2URL: https://www.we-online.com/redexpert/spec/74991104402?ad; Mount: Through Hole; Operating Temperature Max: 85°C; Operating Temperature Min: -40°C; Packaging: Tray; Length: 16.82mm; Width: 16mm; Height: 16.9mm; Data Rate: 1000 Base-T; Tab: Vertical
footprint 74991104402
pins: 1 D1+, 2 D1-, 3 D2+, 4 D2-, 5 VCC/GND, 6 VCC/GND, 7 D3+, 8 D3-, 9 D4+, 10 D4-, 11, 12, 13, 14, Shell Shield

## 74991104403
designator T?  (value not drawn)
WE-RJ45 LAN Transformer, 1 Port, 1000 Base-T, Tab Down; Manufacturer: Wurth Elektronik; LED: yellow/green-yellow/green; Number of Ports: 1; PoE: non-PoE; Shield Tabs: No; USB: No USB; Manufacturer Part Number: 74991104403; Category: Filtered Connectors; Match Code: WE-RJ45 LAN; ComponentLink1Description: Website Link; ComponentLink1URL: https://www.we-online.com/redexpert/article/74991104403?ad; ComponentLink2Description: Datasheet Link; ComponentLink2URL: https://www.we-online.com/redexpert/spec/74991104403?ad; Mount: Through Hole; Operating Temperature Max: 85°C; Operating Temperature Min: -40°C; Packaging: Tape and Reel; Length: 21.35mm; Width: 15.9mm; Height: 13.63mm; Data Rate: 1000 Base-T; Tab: Down
footprint 74991104403
pins: 1 SIG GND, 2 D1+, 3 D1-, 4 D2+, 5 D2-, 6 D3+, 7 D3-, 8 D4+, 9 D4-, 11, 12, 13, 14, Shell Shield

## 74991104404
designator T?  (value not drawn)
WE-RJ45 LAN Transformer, 1 Port, 1000 Base-T, Tab Up; Manufacturer: Wurth Elektronik; LED: yellow/green-yellow/green; Number of Ports: 1; PoE: non-PoE; Shield Tabs: No; USB: No USB; Manufacturer Part Number: 74991104404; Category: Filtered Connectors; Match Code: WE-RJ45 LAN; ComponentLink1Description: Website Link; ComponentLink1URL: https://www.we-online.com/redexpert/article/74991104404?ad; ComponentLink2Description: Datasheet Link; ComponentLink2URL: https://www.we-online.com/redexpert/spec/74991104404?ad; Mount: Through Hole; Operating Temperature Max: 85°C; Operating Temperature Min: -40°C; Packaging: Tape and Reel; Length: 21.5mm; Width: 15.75mm; Height: 13.4mm; Data Rate: 1000 Base-T; Tab: Up
footprint 74991104404
pins: 1 SIG GND, 2 D1+, 3 D1-, 4 D2+, 5 D2-, 6 D3+, 7 D3-, 8 D4+, 9 D4-, 11, 12, 13, 14, Shell Shield

## 74991114410
designator T?  (value not drawn)
WE-RJ45 LAN Transformer, 1 Port, 1000 Base-T, Tab Vertical; Manufacturer: Wurth Elektronik; LED: yellow/green-yellow/green; Number of Ports: 1; PoE: non-PoE; Shield Tabs: Yes; USB: No USB; Manufacturer Part Number: 74991114410; Category: Filtered Connectors; Match Code: WE-RJ45 LAN; ComponentLink1Description: Website Link; ComponentLink1URL: https://www.we-online.com/redexpert/article/74991114410?ad; ComponentLink2Description: Datasheet Link; ComponentLink2URL: https://www.we-online.com/redexpert/spec/74991114410?ad; Mount: Through Hole; Operating Temperature Max: 85°C; Operating Temperature Min: -40°C; Packaging: Tray; Length: 16.8mm; Width: 16mm; Height: 16.9mm; Data Rate: 1000 Base-T; Tab: Vertical
footprint 74991114410
pins: 1 D1+, 2 D1-, 3 D2+, 4 D2-, 5 VCC/GND, 6 VCC/GND, 7 D3+, 8 D3-, 9 D4+, 10 D4-, 11, 12, 13, 14, Shell Shield

## 74991114411
designator T?  (value not drawn)
WE-RJ45 LAN Transformer, 1 Port, 1000 Base-T, Tab Down; Manufacturer: Wurth Elektronik; LED: yellow/green-yellow/green; Number of Ports: 1; PoE: non-PoE; Shield Tabs: Yes; USB: No USB; Manufacturer Part Number: 74991114411; Category: Filtered Connectors; Match Code: WE-RJ45 LAN; ComponentLink1Description: Website Link; ComponentLink1URL: https://www.we-online.com/redexpert/article/74991114411?ad; ComponentLink2Description: Datasheet Link; ComponentLink2URL: https://www.we-online.com/redexpert/spec/74991114411?ad; Mount: Through Hole; Operating Temperature Max: 85°C; Operating Temperature Min: -40°C; Packaging: Tray; Length: 21.35mm; Width: 15.9mm; Height: 13.63mm; Data Rate: 1000 Base-T; Tab: Down
footprint 74991114411
pins: 1 SIG GND, 2 D1+, 3 D1-, 4 D2+, 5 D2-, 6 D3+, 7 D3-, 8 D4+, 9 D4-, 11, 12, 13, 14, Shell Shield

## 74991114412
designator T?  (value not drawn)
WE-RJ45 LAN Transformer, 1 Port, 1000 Base-T, Tab Up; Manufacturer: Wurth Elektronik; LED: yellow/green-yellow/green; Number of Ports: 1; PoE: non-PoE; Shield Tabs: Yes; USB: No USB; Manufacturer Part Number: 74991114412; Category: Filtered Connectors; Match Code: WE-RJ45 LAN; ComponentLink1Description: Website Link; ComponentLink1URL: https://www.we-online.com/redexpert/article/74991114412?ad; ComponentLink2Description: Datasheet Link; ComponentLink2URL: https://www.we-online.com/redexpert/spec/74991114412?ad; Mount: Through Hole; Operating Temperature Max: 85°C; Operating Temperature Min: -40°C; Packaging: Tray; Length: 21.5mm; Width: 15.75mm; Height: 13.8mm; Data Rate: 1000 Base-T; Tab: Up
footprint 74991114412
pins: 1 SIG GND, 2 D1+, 3 D1-, 4 D2+, 5 D2-, 6 D3+, 7 D3-, 8 D4+, 9 D4-, 11, 12, 13, 14, Shell Shield

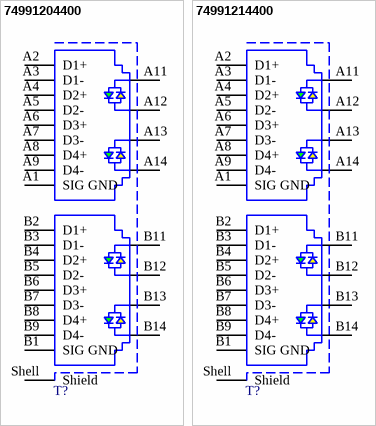
[diagram p3: symbols 74991204400 to 74991214400]

## 74991204400
designator T?  (value not drawn)
WE-RJ45 LAN Transformer, 1x2 Port, 1000 Base-T, Tab Down; Manufacturer: Wurth Elektronik; LED: yellow/green-yellow/green; PoE: non-PoE; Shield Tabs: No; USB: No USB; Manufacturer Part Number: 74991204400; Category: Filtered Connectors; Match Code: WE-RJ45 LAN; ComponentLink1Description: Website Link; ComponentLink1URL: https://www.we-online.com/redexpert/article/74991204400?ad; ComponentLink2Description: Datasheet Link; ComponentLink2URL: https://www.we-online.com/redexpert/spec/74991204400?ad; Mount: Through Hole; Operating Temperature Max: 85°C; Operating Temperature Min: -40°C; Packaging: Tray; Length: 31.24mm; Width: 21.35mm; Height: 13.63mm; Data Rate: 1000 Base-T; Number of Ports: 1x2; Tab: Down
footprint 74991204400
pins: A1 SIG GND, A2 D1+, A3 D1-, A4 D2+, A5 D2-, A6 D3+, A7 D3-, A8 D4+, A9 D4-, A11, A12, A13, A14, B1 SIG GND, B2 D1+, B3 D1-, B4 D2+, B5 D2-, B6 D3+, B7 D3-, B8 D4+, B9 D4-, B11, B12, B13, B14, Shell Shield

## 74991214400
designator T?  (value not drawn)
WE-RJ45 LAN Transformer, 1x2 Port, 1000 Base-T, Tab Down; Manufacturer: Wurth Elektronik; LED: yellow/green-yellow/green; PoE: non-PoE; Shield Tabs: Yes; USB: No USB; Manufacturer Part Number: 74991214400; Category: Filtered Connectors; Match Code: WE-RJ45 LAN; ComponentLink1Description: Website Link; ComponentLink1URL: https://www.we-online.com/redexpert/article/74991214400?ad; ComponentLink2Description: Datasheet Link; ComponentLink2URL: https://www.we-online.com/redexpert/spec/74991214400?ad; Mount: Through Hole; Operating Temperature Max: 85°C; Operating Temperature Min: -40°C; Packaging: Tray; Length: 31.24mm; Width: 21.35mm; Height: 13.63mm; Data Rate: 1000 Base-T; Number of Ports: 1x2; Tab: Down
footprint 74991214400
pins: A1 SIG GND, A2 D1+, A3 D1-, A4 D2+, A5 D2-, A6 D3+, A7 D3-, A8 D4+, A9 D4-, A11, A12, A13, A14, B1 SIG GND, B2 D1+, B3 D1-, B4 D2+, B5 D2-, B6 D3+, B7 D3-, B8 D4+, B9 D4-, B11, B12, B13, B14, Shell Shield